# Altium schematic symbol library USB2514B_M2.SchLib: 1 symbol
Pins are listed as number, name and electrical type; pins without a type are passive.

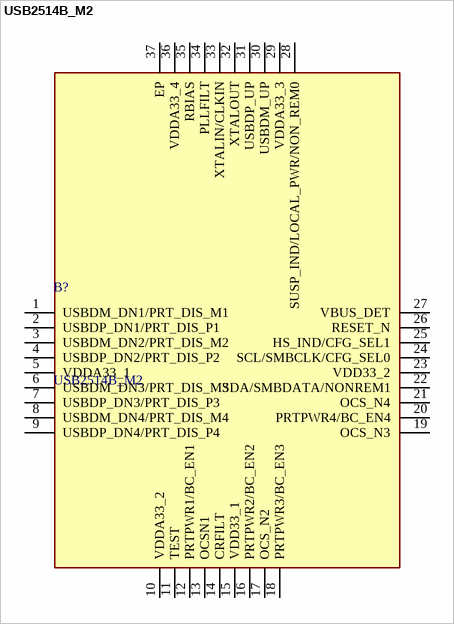
[diagram p0: symbol USB2514B_M2]

## USB2514B_M2
designator B?
MICROCHIP - USB2514B/M2 - USB HUB CONTROLLER, USB2.0, SQFN-36; Geometry.Height: 1mm; Manufacturer_Name: Microchip; Manufacturer_Part_Number: USB2514B/M2; Mouser Part Number: 579-USB2514B/M2; Mouser Price/Stock: https://www.mouser.co.uk/ProductDetail/Microchip-Technology/USB2514B-M2?qs=uus7iwvxYD9zlzrAre8ynw%3D%3D; Arrow Part Number: USB2514B/M2; Arrow Price/Stock: https://www.arrow.com/en/products/usb2514bm2/microchip-technology?region=nac; Datasheet Link: http://ww1.microchip.com/downloads/en/DeviceDoc/00001692C.pdf
footprint QFN50P600X600X100-37N-D
pins: 1 USBDM_DN1/PRT_DIS_M1, 2 USBDP_DN1/PRT_DIS_P1, 3 USBDM_DN2/PRT_DIS_M2, 4 USBDP_DN2/PRT_DIS_P2, 5 VDDA33_1, 6 USBDM_DN3/PRT_DIS_M3, 7 USBDP_DN3/PRT_DIS_P3, 8 USBDM_DN4/PRT_DIS_M4, 9 USBDP_DN4/PRT_DIS_P4, 10 VDDA33_2, 11 TEST, 12 PRTPWR1/BC_EN1, 13 OCSN1, 14 CRFILT, 15 VDD33_1, 16 PRTPWR2/BC_EN2, 17 OCS_N2, 18 PRTPWR3/BC_EN3, 19 OCS_N3, 20 PRTPWR4/BC_EN4, 21 OCS_N4, 22 SDA/SMBDATA/NONREM1, 23 VDD33_2, 24 SCL/SMBCLK/CFG_SEL0, 25 HS_IND/CFG_SEL1, 26 RESET_N, 27 VBUS_DET, 28 SUSP_IND/LOCAL_PWR/NON_REM0, 29 VDDA33_3, 30 USBDM_UP, 31 USBDP_UP, 32 XTALOUT, 33 XTALIN/CLKIN, 34 PLLFILT, 35 RBIAS, 36 VDDA33_4, 37 EP